# EAGLE library part MICROBIT_CONNECTOR (library TimeExpander)
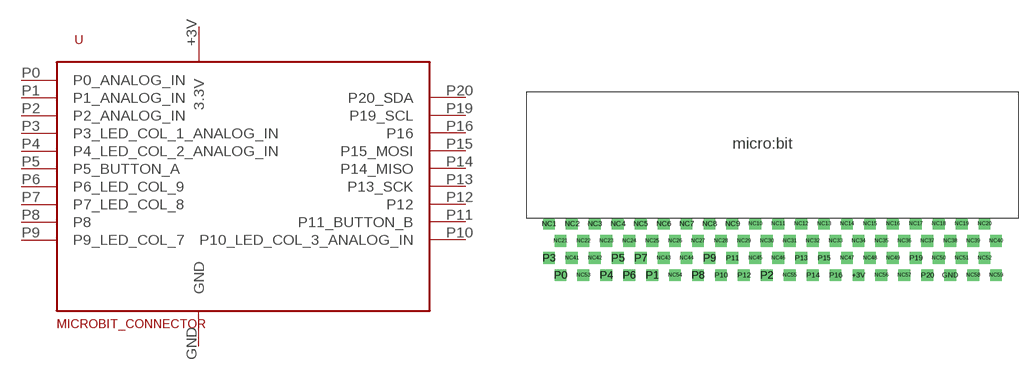
[diagram p9: symbol with the pads of MICROBIT_CONNECTOR; footprint MICROBIT_CONNECTOR]

Designator prefix -

## MICROBIT_CONNECTOR (VALUE: micro:bit connector)  [MICROBIT_CONNECTOR]
+3V  3.3V
GND  GND
P0  P0_ANALOG_IN
P1  P1_ANALOG_IN
P2  P2_ANALOG_IN
P3  P3_LED_COL_1_ANALOG_IN
P4  P4_LED_COL_2_ANALOG_IN
P5  P5_BUTTON_A
P6  P6_LED_COL_9
P7  P7_LED_COL_8
P8  P8
P9  P9_LED_COL_7
P10  P10_LED_COL_3_ANALOG_IN
P11  P11_BUTTON_B
P12  P12
P13  P13_SCK
P14  P14_MISO
P15  P15_MOSI
P16  P16
P19  P19_SCL
P20  P20_SDA

## Footprint MICROBIT_CONNECTOR (pad centres in mm)
drill 0.8 square: +3V 33.02,0; GND 43.18,0; NC1 -1.27,5.7; NC2 1.27,5.7; NC3 3.81,5.7; NC4 6.35,5.7; NC5 8.89,5.7; NC6 11.43,5.7; NC7 13.97,5.7; NC8 16.51,5.7; NC9 19.05,5.7; NC10 21.59,5.7; NC11 24.13,5.7; NC12 26.67,5.7; NC13 29.21,5.7; NC14 31.75,5.7; NC15 34.29,5.7; NC16 36.83,5.7; NC17 39.37,5.7; NC18 41.91,5.7; NC19 44.45,5.7; NC20 46.99,5.7; NC21 0,3.8; NC22 2.54,3.8; NC23 5.08,3.8; NC24 7.62,3.8; NC25 10.16,3.8; NC26 12.7,3.8; NC27 15.24,3.8; NC28 17.78,3.8; NC29 20.32,3.8; NC30 22.86,3.8; NC31 25.4,3.8; NC32 27.94,3.8; NC33 30.48,3.8; NC34 33.02,3.8; NC35 35.56,3.8; NC36 38.1,3.8; NC37 40.64,3.8; NC38 43.18,3.8; NC39 45.72,3.8; NC40 48.26,3.8; NC41 1.27,1.9; NC42 3.81,1.9; NC43 11.43,1.9; NC44 13.97,1.9; NC45 21.59,1.9; NC46 24.13,1.9; NC47 31.75,1.9; NC48 34.29,1.9; NC49 36.83,1.9; NC50 41.91,1.9; NC51 44.45,1.9; NC52 46.99,1.9; NC53 2.54,0; NC54 12.7,0; NC55 25.4,0; NC56 35.56,0; NC57 38.1,0; NC58 45.72,0; NC59 48.26,0; P0 0,0; P1 10.16,0; P2 22.86,0; P3 -1.27,1.9; P4 5.08,0; P5 6.35,1.9; P6 7.62,0; P7 8.89,1.9; P8 15.24,0; P9 16.51,1.9; P10 17.78,0; P11 19.05,1.9; P12 20.32,0; P13 26.67,1.9; P14 27.94,0; P15 29.21,1.9; P16 30.48,0; P19 39.37,1.9; P20 40.64,0